# EAGLE library part SERIAL (library Doc-Test_Interface)
Serial, Aux PS, Oscilloscope Enable
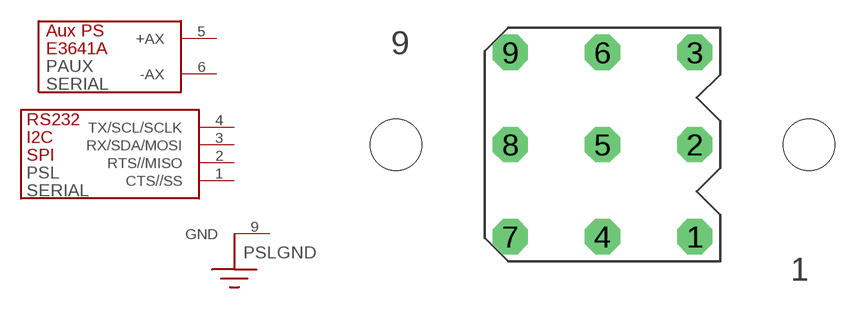
[diagram p5: symbol with the pads of 207441; footprint 207441]

Designator prefix P; gates AUX=AUX SL=SERIAL SLGND=GND

## SERIAL  [207441]
1  SL:CTS//SS  in
2  SL:RTS//MISO  out
3  SL:RX/SDA/MOSI  in
4  SL:TX/SCL/SCLK  out
5  AUX:+AX  in
6  AUX:-AX  in
9  SLGND:GND

## Footprint 207441 (pad centres in mm)
207441 Metrimate 9 Pin Header 207440 Metrimate 9 Pin Receptacle, which is not board mounted
drill 1.27 octagon: 1 5,-5; 2 5,0; 3 5,5; 4 0,-5; 5 0,0; 6 0,5; 7 -5,-5; 8 -5,0; 9 -5,5
hole 2.794 at -11.2,0
hole 2.794 at 11.2,0